# Altium schematic symbol library AT25FF081A-SSHN-B.SchLib: 1 symbol
Pins are listed as number, name and electrical type; pins without a type are passive.

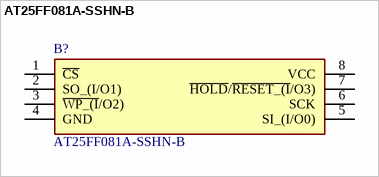
[diagram p0: symbol AT25FF081A-SSHN-B]

## AT25FF081A-SSHN-B
designator B?
The AT25FF081A is a member of our Standard class code and data storage solutions and is ideally suited for systems that need fast Read performance and low Sleep power for boot/code shadowing and Execute-in-Place tasks. Its low power consumption and wide operating voltage range are optimized for battery-powered designs.; Manufacturer_Name: Renesas Electronics; Geometry.Height: 1.75mm; Manufacturer_Part_Number: AT25FF081A-SSHN-B; Mouser Part Number: *; Mouser Price/Stock: *; Arrow Part Number: *; Arrow Price/Stock: *; Datasheet Link: https://www.renesas.com/us/en/products/memory-logic/non-volatile-memory/spi-nor-flash/dual-quad-spi-memory/at25ff081a-8mbit-165-v-36-v-spi-serial-flash-memory-multi-io-support
footprint SOIC127P600X175-8N
pins: 1 ~{CS}, 2 SO_(I/O1), 3 ~{WP_(I}/O2), 4 GND, 5 SI_(I/O0), 6 SCK, 7 ~{HOLD}/~{RESET_(I}/O3), 8 VCC